# EAGLE library part BLE112A (library bleHAT)
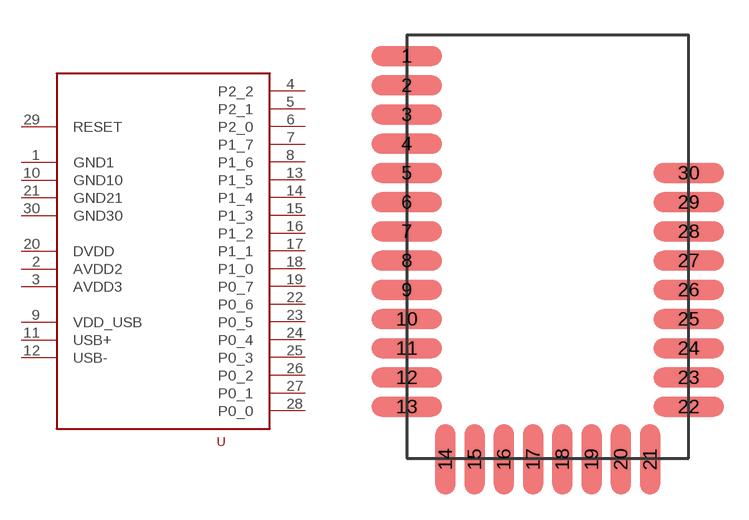
[diagram p0: symbol with the pads of BLE112; footprint BLE112]

Designator prefix -

## BLE112A  [BLE112]
1  GND1
2  AVDD2
3  AVDD3
4  P2_2
5  P2_1
6  P2_0
7  P1_7
8  P1_6
9  VDD_USB
10  GND10
11  USB+
12  USB-
13  P1_5
14  P1_4
15  P1_3
16  P1_2
17  P1_1
18  P1_0
19  P0_7
20  DVDD
21  GND21
22  P0_6
23  P0_5
24  P0_4
25  P0_3
26  P0_2
27  P0_1
28  P0_0
29  RESET
30  GND30

## Footprint BLE112 (pad centres in mm)
smd 3 x 0.85: 1 0,0; 2 0,-1.25; 3 0,-2.5; 4 0,-3.75; 5 0,-5; 6 0,-6.25; 7 0,-7.5; 8 0,-8.75; 9 0,-10; 10 0,-11.25; 11 0,-12.5; 12 0,-13.75; 13 0,-15; 22 12.05,-15; 23 12.05,-13.75; 24 12.05,-12.5; 25 12.05,-11.25; 26 12.05,-10; 27 12.05,-8.75; 28 12.05,-7.5; 29 12.05,-6.25; 30 12.05,-5
smd 0.85 x 3: 14 1.65,-17.25; 15 2.9,-17.25; 16 4.15,-17.25; 17 5.4,-17.25; 18 6.65,-17.25; 19 7.9,-17.25; 20 9.15,-17.25; 21 10.4,-17.25